# EAGLE library part 6490XX227222_649012227222 (library Wurth_Connectors_WR-MPC4)
WR-MPC4 4.20 mm Male Dual Row Angled Header w. Mounting Pegs KIND PROPERTIES: Pitch:4.2 mm Gender:Male MATERIAL PROPERTIES: Insulator Material :PA66 Insulator Flammability Rating:UL94 V-0 Insulator Color:White Contact Material:Tin over Nickel Contact Plating:Tin Contact Type:Stamped GENERAL INFORMATION Operating Temperature:-40 up to +105 °C Working Voltage:600V (AC) Withstanding Voltage:1500 V (AC) Contact Resistance:10 mΩ RISO:1000 MΩ PACKAGING PROPERTIES Packaging:Tray <https://katalog.we-online.com/media/images/v2/o33191v209%20Family_WR-MPC4_6490xx227222.jpg> Details see: https://katalog.we-online.com/en/em/MPC4_4_20_MALE_DUAL_ROW_ANGLED_HEADER_W_MOUNTING_PEGS_6490XX227222 Updated by Yingchun,Shan 2019-11-12 2019 (C) Würth Elektronik
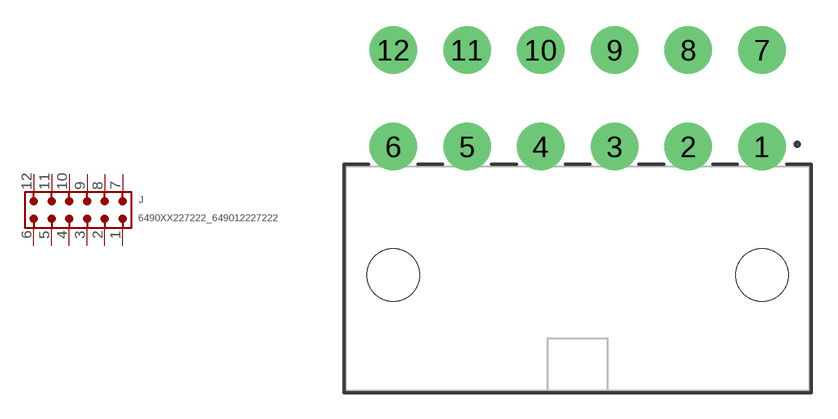
[diagram p21: symbol with the pads of 649012227222; footprint 649012227222]

Designator prefix J

## 6490XX227222_649012227222 (CONTACT-RESISTANCE: 10mOhm; DATASHEET-URL: https://www.we-online.com/catalog/datasheet/649012227222.pdf; GENDER: Male; L: 26.4mm; MATE-WITH: WR-MPC4 4.20 mm Female Dual Row Plug; MOUNT: THT; PACKAGING: Tray; PART-NUMBER: 649012227222; PCB-CABLE-PANEL: PCB; PINS: 12; PITCH: 4.2mm; ROWS: Dual; TOL-R: max.; TYPE: Right Angled; WORKING-VOLTAGE: 600V(AC))  [649012227222]
1  1  pas
2  2  pas
3  3  pas
4  4  pas
5  5  pas
6  6  pas
7  7  pas
8  8  pas
9  9  pas
10  10  pas
11  11  pas
12  12  pas

## Footprint 649012227222 (pad centres in mm)
WR-MPC4 4.20 mm Male Dual Row Angled Header w. Mounting Pegs,12 pins
drill 1.8: 1 10.5,7.5; 2 6.3,7.5; 3 2.1,7.5; 4 -2.1,7.5; 5 -6.3,7.5; 6 -10.5,7.5; 7 10.5,13; 8 6.3,13; 9 2.1,13; 10 -2.1,13; 11 -6.3,13; 12 -10.5,13
hole 3 at -10.5,0.2
hole 3 at 10.5,0.2